# EAGLE library part FT230XS (library rc2usb)
I/F, USB2.0 FS TO BASIC UART
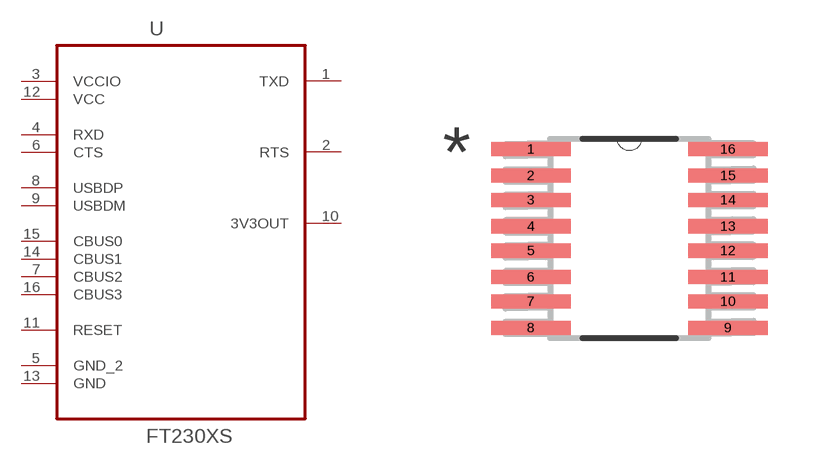
[diagram p1: symbol with the pads of SOP63P600X175-16N; footprint SOP63P600X175-16N]

Designator prefix U

## FT230XS (MPN: FT230XS; OC_FARNELL: 2081321; OC_NEWARK: 83T7087; PACKAGE: SSOP-16; SUPPLIER: FTDI)  [SOP63P600X175-16N]
1  TXD  out
2  RTS  out
3  VCCIO  pwr
4  RXD  in
5  GND_2  pwr
6  CTS  in
7  CBUS2  in
8  USBDP  in
9  USBDM  in
10  3V3OUT  out
11  RESET  in
12  VCC  out
13  GND  pwr
14  CBUS1  in
15  CBUS0  in
16  CBUS3  in

## Footprint SOP63P600X175-16N (pad centres in mm)
smd 1.981 x 0.356: 1 -2.464,2.235; 2 -2.464,1.575; 3 -2.464,0.965; 4 -2.464,0.305; 5 -2.464,-0.305; 6 -2.464,-0.965; 7 -2.464,-1.575; 8 -2.464,-2.235; 9 2.464,-2.235; 10 2.464,-1.575; 11 2.464,-0.965; 12 2.464,-0.305; 13 2.464,0.305; 14 2.464,0.965; 15 2.464,1.575; 16 2.464,2.235